# Altium footprint library basic_pcb.PcbLib: 133 footprints (part 3 of 9)
Each footprint in its own frame and in the unit in brackets; x right, y up, seen from the top. Pads: shape width x height; smd on the part's side, far side on the other; paste and mask are expansions set on the pad; w line width, h text height; cw(c..) or ccw(c..) is an arc to the next point about the centre after c.
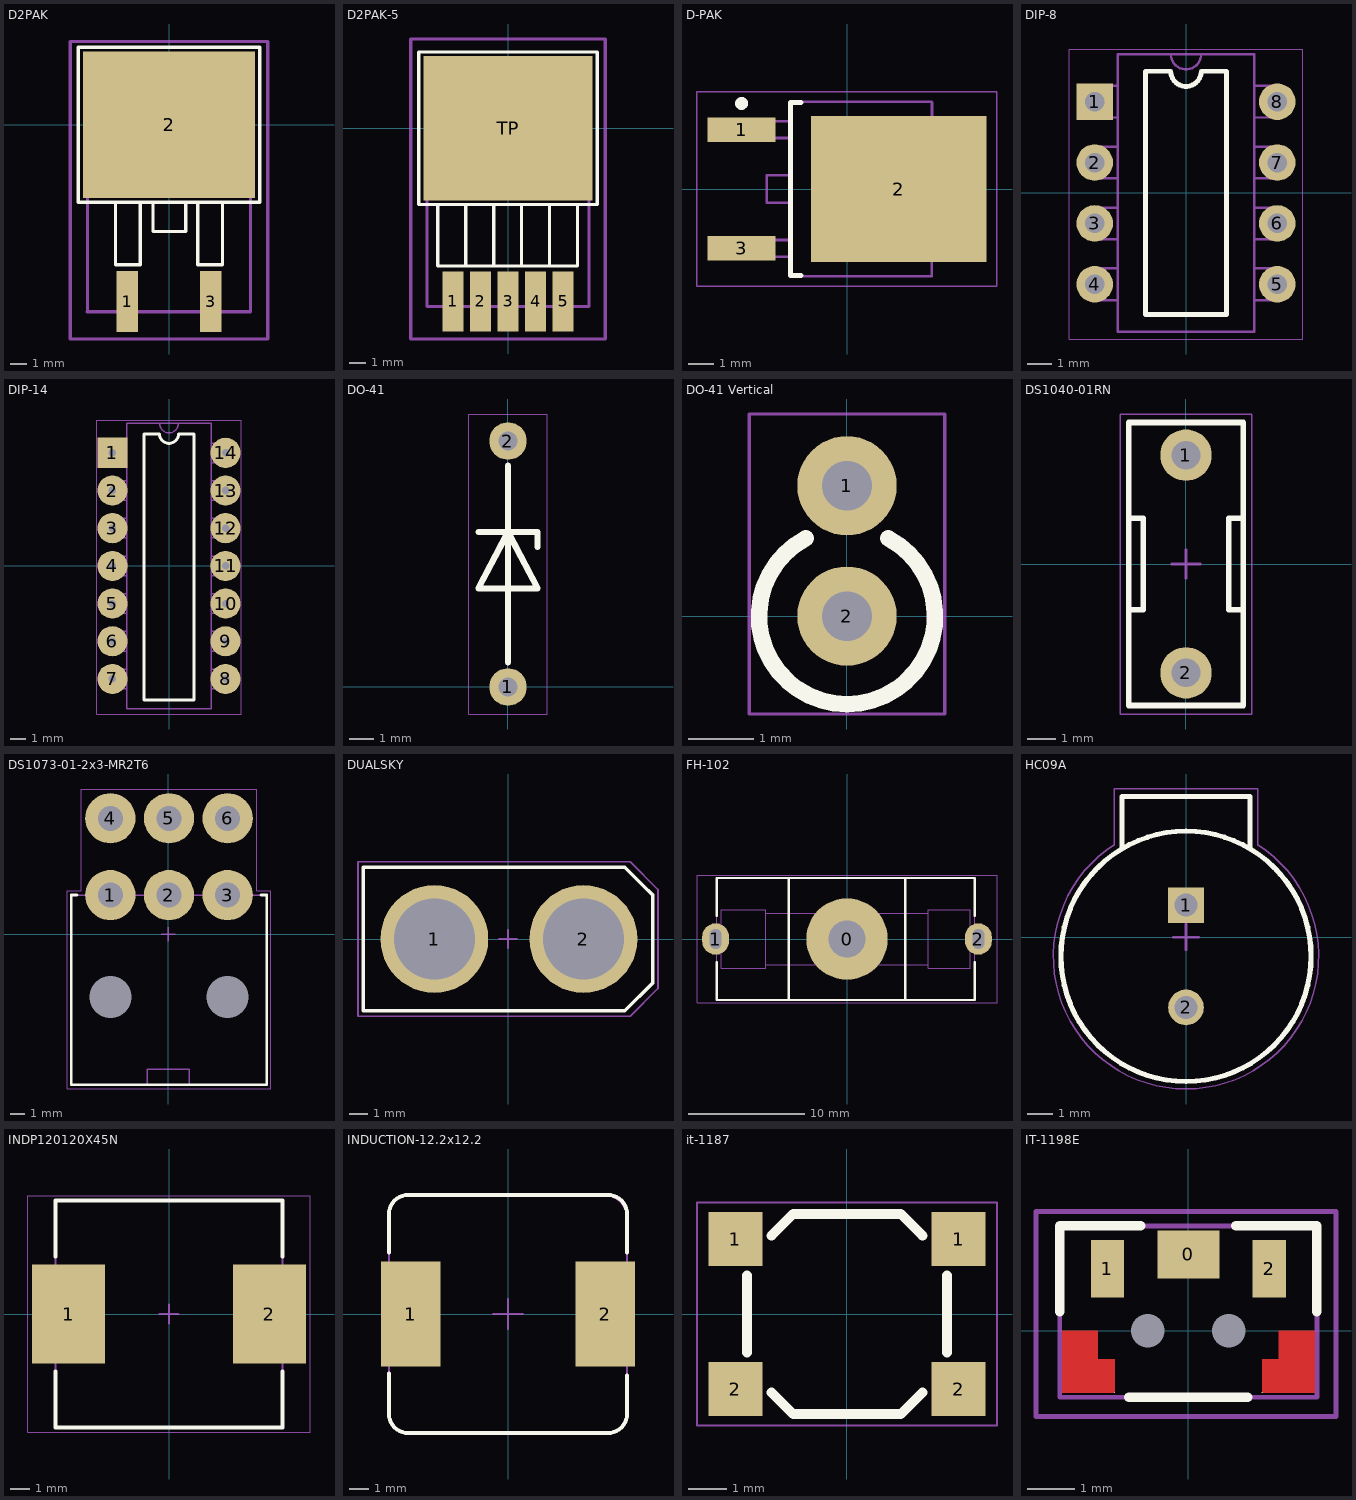
[diagram p2: the footprints below, top view; thin cyan lines are the x and y axes]

## D2PAK [mm]
pads (3):
  rect 1.3x3.7 smd: 1(-2.54,-10.735) 3(2.54,-10.735)
  rect 10.41x8.9 smd: 2(0,0)
Top Overlay:
  lines w0.2: -3.25,-4.75 -3.25,-8.25 -3.25,-8.5 -1.75,-8.5 -1.75,-8.25 -1.75,-4.75 ; -0.975,-4.725 -0.975,-6.475 1.025,-6.475 1.025,-4.725 ; 1.75,-4.75 1.75,-8.25 1.75,-8.5 3.25,-8.5 3.25,-8.25 3.25,-4.75 ; -5.5,-4.7 5.5,-4.7 5.5,4.7 -5.5,4.7 -5.5,-4.7
Top Value:
  text ".Comment" at 7,-0.484 h1.52
Top Designator:
  text ".Designator" at 6.85,1.105 h1.52
Top Component Outline:
  lines w0.2: -4.975,-11.35 -4.95,-11.35 -4.95,4.275 4.95,4.275 4.95,-11.35 -4.975,-11.35
Top Courtyard:
  lines w0.2: -0.5,0 0.5,0 ; 0,-0.5 0,0.5 0,0 ; -6,-13 -6,5.05 6,5.05 6,-13 -6,-13
3D body "User Library-TO263-3S.STEP": height 4.76, standoff -0.04, extent -5,-11.335 5,4.335

## D2PAK-5 [mm] "KTT0005B"
pads (6):
  rect 1.3x3.7 smd: 1(-3.4,-10.675) 2(-1.7,-10.675) 3(0,-10.675) 4(1.7,-10.675) 5(3.4,-10.675)
  rect 10.41x8.9 smd: TP(0,0)
Top Overlay:
  lines w0.2: -4.336,-4.725 -4.336,-8.5 -2.611,-8.5 ; 4.289,-4.725 4.289,-8.5 2.564,-8.5 ; -2.611,-8.5 -2.611,-4.725 -2.611,-8.5 ; -2.611,-8.5 -0.886,-8.5 ; -0.886,-8.5 -0.886,-4.725 -0.886,-8.5 ; -0.886,-8.5 0.839,-8.5 ; 0.839,-8.5 0.839,-4.725 0.839,-8.5 ; 0.839,-8.5 2.564,-8.5 ; 2.564,-8.5 2.564,-4.725 2.564,-8.5 ; -5.5,-4.7 -5.5,4.7 5.5,4.7 5.5,-4.7 -5.5,-4.7
Top Value:
  text ".Comment" at 7,-0.484 h1.52
Top Designator:
  text ".Designator" at 6.85,1.105 h1.52
Top Component Outline:
  lines w0.2: -5,-11 5,-11 5,3.5 -5,3.5 -5,-11
Top Courtyard:
  lines w0.2: -6,-13 -6,5 -6,5.5 6,5.5 6,-13 -6,-13
3D body "User Library-DІPAK TO-263-5.step": height 4.87, standoff 0, extent -5.005,-10.915 5.155,3.315

## D-PAK [mm] "D-PAK, 3-Pads, Body 6,21x6,73mm (max), IPC High Density"
height 2.41
pads (3):
  rect 2.65x0.95 smd: 1(-4.1,2.29) 3(-4.1,-2.29)
  rect 6.8x5.65 smd: 2(2,0)
Top Overlay:
  circle w0.25: c-4.1,3.315 r0.125
  lines w0.2: -1.8,-3.35 -2.2,-3.35 -2.2,3.35 -1.8,3.35
Top Value:
  text ".Comment" at -5.807,-5.874 h1.2
Top Designator:
  text ".Designator" at -5.808,-4.835 h1.5
Top Component Outline:
  lines w0.1: -4.025,-2.625 -4.025,-1.975 ; -4.025,1.975 -4.025,2.625 ; -2.2,-2.625 -4.725,-2.625 -4.725,-1.975 -2.2,-1.975 ; -2.2,-0.525 -3.125,-0.525 -3.125,0.525 -2.2,0.525 ; -2.2,1.975 -4.725,1.975 -4.725,2.625 -2.2,2.625 ; 3.276,-2.55 4.325,-2.55 4.8,-2.075 4.8,2.075 4.325,2.55 3.279,2.55 ; 3.275,3.375 -2.2,3.375 -2.2,-3.375 3.275,-3.375 3.28,3.35
Top Courtyard:
  lines w0.05: -5.825,-3.775 -5.825,3.775 5.8,3.775 5.8,-3.775 -5.825,-3.775
  lines w0.1: -0.5,0 0.5,0 ; 0,-0.5 0,0.5
3D body "D-PAK.STEP": height 2.3, standoff 0, extent -4.7,-3.247 4.8,3.247

## DIP-8 [mm]
height 3.1
pads (8):
  rect 1.5x1.5 hole 0.8: 1(-3.75,3.75)
  round 1.5 hole 0.8: 2(-3.75,1.25) 3(-3.75,-1.25) 4(-3.75,-3.75) 5(3.75,-3.75) 6(3.75,-1.25) 7(3.75,1.25) 8(3.75,3.75)
Top Overlay:
  lines w0.2: -1.665,-5 1.665,-5 1.665,5 0.625,5 cw(c0,5) -0.625,5 -1.665,5 -1.665,-5
Top Value:
  text ".Comment" at -1.722,-1.474 h1.2
Top Designator:
  text ".Designator" at -2.578,0.865 h1.5
Top Component Outline:
  lines w0.1: -2.8,-4.4 -3.9,-4.4 -3.9,-3.1 -2.8,-3.1 ; -2.8,-1.9 -3.9,-1.9 -3.9,-0.6 -2.8,-0.6 ; -2.8,0.6 -3.9,0.6 -3.9,1.9 -2.8,1.9 ; -2.8,3.1 -3.9,3.1 -3.9,4.4 -2.8,4.4 ; -0.625,5.7 ccw(c0,5.7) 0.625,5.7 ; 2.8,-4.4 3.9,-4.4 3.9,-3.1 2.8,-3.1 ; 2.8,-1.9 3.9,-1.9 3.9,-0.6 2.8,-0.6 ; 2.8,0.6 3.9,0.6 3.9,1.9 2.8,1.9 ; 2.8,3.1 3.9,3.1 3.9,4.4 2.8,4.4 ; -2.8,-5.7 -2.8,5.7 2.8,5.7 2.8,-5.7 -2.8,-5.7
Top Courtyard:
  lines w0.05: -4.8,-6 -4.8,5.9 4.8,5.9 4.8,-6 -4.8,-6
3D body "CircuitWorks-DIP8.step": height 4.19, standoff -2.67, extent -3.937,-5.73 3.937,5.7

## DIP-14 [mm]
height 3.1
pads (14):
  rect 2x2 hole 0.5: 1(-3.75,7.5)
  round 2 hole 0.5: 2(-3.75,5) 3(-3.75,2.5) 4(-3.75,0) 5(-3.75,-2.5) 6(-3.75,-5) 7(-3.75,-7.5) 8(3.75,-7.5) 9(3.75,-5) 10(3.75,-2.5) 11(3.75,0) 12(3.75,2.5) 13(3.75,5) 14(3.75,7.5)
Top Overlay:
  lines w0.2: -1.665,-8.9 1.665,-8.9 1.665,8.75 0.625,8.75 cw(c0,8.75) -0.625,8.75 -1.665,8.75 -1.665,-8.9
Top Value:
  text ".Comment" at -1.722,2.276 h1.2
Top Designator:
  text ".Designator" at -2.578,4.615 h1.5
Top Component Outline:
  lines w0.1: -3.9,-8.15 -2.8,-8.15 ; -3.9,-6.85 -2.8,-6.85 ; -3.9,-5.65 -2.8,-5.65 ; -3.9,-4.35 -2.8,-4.35 ; -3.9,-3.15 -2.8,-3.15 ; -3.9,-1.85 -2.8,-1.85 ; -2.8,-0.65 -3.9,-0.65 -3.9,0.65 -2.8,0.65 ; -2.8,1.85 -3.9,1.85 -3.9,3.15 -2.8,3.15 ; -2.8,4.35 -3.9,4.35 -3.9,5.65 -2.8,5.65 ; -2.8,6.85 -3.9,6.85 -3.9,8.15 -2.8,8.15 ; -0.625,9.45 ccw(c0,9.45) 0.625,9.45 ; 2.8,-8.15 3.9,-8.15 ; 2.8,-6.85 3.9,-6.85 ; 2.8,-5.65 3.9,-5.65 ; 2.8,-4.35 3.9,-4.35 ; 2.8,-3.15 3.9,-3.15 ; 2.8,-1.85 3.9,-1.85 ; 2.8,-0.65 3.9,-0.65 3.9,0.65 2.8,0.65 ; 2.8,1.85 3.9,1.85 3.9,3.15 2.8,3.15 ; 2.8,4.35 3.9,4.35 3.9,5.65 2.8,5.65 ; 2.8,6.85 3.9,6.85 3.9,8.15 2.8,8.15 ; -2.8,-9.475 -2.8,9.45 2.8,9.45 2.8,-9.475 -2.8,-9.475
Top Courtyard:
  lines w0.05: -4.8,-9.825 -4.8,9.65 4.8,9.65 4.8,-9.825 -4.8,-9.825
3D body "CircuitWorks-DIP8.step": height 4.19, standoff -2.67, extent -3.937,-9.48 3.937,1.95
3D body "CircuitWorks-DIP8.step": height 4.19, standoff -2.67, extent -3.937,-1.98 3.937,9.45

## DO-41 [mil] "zener diode"
pads (2):
  round 60 hole 30: 1(0,0) 2(0,393.7)
Top Overlay:
  lines w10: -47.24,248.02 0,248.01 -47.43,157.48 47.43,157.48 0,248.03 47.24,248.03 47.24,224.41 ; 0,39.37 0,354.33
Top Value:
  text ".Comment" at -33.9,170.3 h23.62
Top Designator:
  text ".Designator" at -54.15,190.66 h31.5
Top Courtyard:
  lines w1.97: -62.99,-43.31 62.99,-43.31 62.99,437.01 -62.99,437.01 -62.99,-43.31

## DO-41 Vertical [mil]
pads (2):
  round 60 hole 30: 1(0,78.74) 2(0,0)
Top Overlay:
  lines w10: -24.95,46.93 ccw(c0,0) 24.95,46.93
Top Value:
  text ".Comment" at -33.9,16.76 h23.62
Top Designator:
  text ".Designator" at -54.15,37.11 h31.5
Top Courtyard:
  lines w1.97: -59.06,-59.06 -59.06,122.05 59.06,122.05 59.06,-59.06 -59.06,-59.06
3D body "User Library-DO_41_Vertical_H6P7.STEP": height 280.71, standoff -59.06, extent -53.15,-53.15 53.15,95.67

## DS1040-01RN [mm] "Ïåðåêëþ÷àòåëü íàïëàòíûé"
height 8
pads (2):
  round 1.8 hole 1: 1(0,3.81) 2(0,-3.81)
Top Overlay:
  lines w0.2: -2,-1.6 -1.5,-1.6 -1.5,0 -1.5,1.6 -2,1.6 ; -0.5,4 0.5,4 ; 2,-1.6 1.5,-1.6 1.5,0 1.5,1.6 2,1.6 ; -2,-4.95 -2,4.95 0.6,4.95 2,4.95 2,-4.95 -2,-4.95
Top Value:
  text ".Comment" at 1.274,-1.722 h1.2
Top Designator:
  text ".Designator" at -0.465,-2.578 h1.5
Top Component Outline:
  lines w0.1: -2,-4.95 2,-4.95 2,4.95 -2,4.95 -2,-4.95
Top Courtyard:
  lines w0.05: -2.3,-5.25 2.3,-5.25 2.3,5.25 -2.3,5.25 -2.3,-5.05 -2.3,-5.25
  lines w0.1: -0.5,0 0.5,0 ; 0,-0.5 0,0.5
3D body: height 8.25, standoff 0.05, extent -2,-4.95 2,4.95
3D body: height 8.1, standoff 6.9, extent -0.65,2 0.65,6.7
3D body: height 1.35, standoff -1.35, extent -0.3,3.71 0.3,3.91
3D body: height 1.35, standoff -1.35, extent -0.3,-3.91 0.3,-3.71

## DS1073-01-2x3-MR2T6 [mm]
height 12
pads (8):
  round 0 hole 3: 0(-4.15,-4.5) 0(4.25,-4.5)
  round 3.6 hole 1.8: 1(-4.15,2.8) 2(0.05,2.8) 3(4.25,2.8) 4(-4.15,8.3) 5(0.05,8.3) 6(4.25,8.3)
Top Overlay:
  lines w0.2: -6.55,2.8 -6.95,2.8 -6.95,-10.792 7.05,-10.792 7.05,2.8 6.65,2.8
Top Value:
  text ".Comment" at -1.722,-5.974 h1.2
Top Designator:
  text ".Designator" at -2.578,-3.635 h1.5
Top Component Outline:
  lines w0.1: -6.95,-10.792 6.95,-10.792 ; -6.95,-10.1 -6.95,2.8 6.95,2.8 ; -1.5,-10.792 -1.5,-9.692 1.5,-9.692 1.5,-10.792 ; 7.05,-10.1 7.05,2.8
Top Courtyard:
  lines w0.05: -7.25,-11.092 7.35,-11.092 7.35,3.1 6.35,3.1 6.35,10.4 -6.25,10.4 -6.25,3.1 -7.25,3.1 -7.25,-11.092
  lines w0.1: -0.5,0 0.5,0 ; 0,-0.5 0,0.5
3D body "Molex - Mini-Fit - 6c - PCB.stp": height 11.4, standoff -3.6, extent -6.85,-11.092 7.35,8.842

## DUALSKY [mm]
pads (2):
  round 6 hole 4.5: 1(-4.1,0) 2(4.2,0)
Top Overlay:
  lines w0.2: 7.5,3 6.5,4 -8.05,4 -8.05,-4 6.5,-4 8.05,-2.45 8.05,2.45 7.5,3 ; 7.5,3 7.5,3
Top Value:
  text ".Comment" at -8.307,-6.374 h1.2
Top Designator:
  text ".Designator" at -8.308,-5.335 h1.5
Top Component Outline:
  lines w0.1: -8.05,-4 6.5,-4 8.05,-2.45 8.05,2.45 6.5,4 -8.039,4 -8.05,-4
Top Courtyard:
  lines w0.1: -0.5,0 0.5,0 ; 0,-0.5 0,0.5 ; -8.35,-4.3 6.8,-4.3 8.35,-2.75 8.35,2.75 6.8,4.3 -8.35,4.3 -8.35,-4.3
3D body "DUALSKY DC3.STEP": height 15.4, standoff -5.1, extent -8.039,-4 8.05,4

## FH-102 [mm] "Äåðæàòåëü äëÿ ïðåäîõðàíèòåëÿ 520"
pads (3):
  round 7 hole 3.2: 0(0,0)
  oval 2.3x2.7 hole 1 slot 1.7 at 90 deg: 1(-11.3,0) 2(11.3,0)
Top Overlay:
  lines w0.2: -11.2,-2 -11.2,-5.25 11,-5.25 11,-2 ; -11.2,2 -11.2,5.25 11,5.25 11,2 ; -5,-5.25 -5,5.25 ; 5,-5.25 5,5.25
Top Value:
  text ".Comment" at -13.007,-7.574 h1.2
Top Designator:
  text ".Comment" at -1.755,-0.605 h1
  text ".Designator" at -1.825,0.125 h1
  text ".Designator" at -13.008,-6.535 h1.5
Top Component Outline:
  lines w0.1: -7,-2.2 0,-2.2 7,-2.2 ; -7,2.2 0,2.2 7,2.2 ; -11.2,-5.25 -11.2,5.25 11,5.25 11,-5.25 -11.2,-5.25 ; -10.8,-2.5 -10.8,0.8 -10.8,2.5 -7,2.5 -7,-2.5 -10.8,-2.5 ; 7,-2.5 10.6,-2.5 10.6,0.6 10.6,2.5 7,2.5 7,-2.5
Top Courtyard:
  lines w0.05: -12.9,-5.5 12.9,-5.5 12.9,-0.3 12.9,5.5 -12.9,5.5 -12.9,0.5 -12.9,-5.5
  lines w0.1: -0.5,0 0.5,0 ; 0,-0.5 0,0.5
3D body "User Library-Fuse_Holder.STEP": height 13.24, standoff -5.6, extent -11.58,-4.5 11.58,4.5
3D body: height 1.35, standoff -1.35, extent 11,-0.3 11.2,0.3
3D body: height 1.35, standoff -1.35, extent -11.4,-0.3 -11.2,0.3

## HC09A [mm]
pads (2):
  rect 1.4x1.4 hole 0.9: 1(0,1.25)
  round 1.4 hole 0.9: 2(0,-2.75)
Top Overlay:
  circle w0.2: c0,-0.75 r4.9
  lines w0.2: -2.5,3.475 -2.5,5.5 2.5,5.5 2.5,3.45
Top Value:
  text ".Comment" at -1.722,-1.774 h1.2
Top Designator:
  text ".Designator" at -2.611,-0.735 h1.5
Top Courtyard:
  lines w0.05: -2.8,3.625 ccw(c0,-0.75) 2.8,3.625 2.8,5.8 -2.8,5.8 -2.8,3.625
  lines w0.1: -0.5,0 0.5,0 ; 0,-0.5 0,0.5
3D body "User Library-hc09xxa.step": height 5.01, standoff -3, extent -4.75,-5.5 4.75,5.5

## INDP120120X45N [mm] "Precision Wire Wound Inductor, 2-Leads, Body 12,00x12,00mm, IPC Medium Density"
height 4.5
pads (2):
  rect 3.75x5.1 smd: 1(-5.175,0) 2(5.175,0)
Top Overlay:
  lines w0.2: -5.85,-2.95 -5.85,-5.85 5.85,-5.85 5.85,-2.95 ; -5.85,2.95 -5.85,5.85 5.85,5.85 5.85,2.95
Top Assembly:
  lines w0.1: -5.85,-5.85 -5.85,5.85 5.85,5.85 5.85,-5.85 -5.85,-5.85
Top Value:
  text ".Comment" at -2.189,-0.952 h1.52
Top Designator:
  text ".Designator" at -2.617,0.272 h1.52
Top Courtyard:
  lines w0.05: -7.275,-6.1 -7.275,6.1 7.275,6.1 7.275,-6.1 -7.275,-6.1
  lines w0.1: -0.5,0 0.5,0 ; 0,-0.5 0,0.5
3D body: height 4.5, standoff 0, extent -5.85,-5.85 5.85,5.85

## INDUCTION-12.2x12.2 [mm]
pads (2):
  rect 3x5.3 smd: 1(-4.9,0) 2(4.9,0)
Top Overlay:
  lines w0.2: -6,-3 -6,-5 ccw(c-5,-5) -5,-6 5,-6 ccw(c5,-5) 6,-5 6,-3.1 ; -6,3.1 -6,5 cw(c-5,5) -5,6 5,6 cw(c5,5) 6,5 6,3.1
Top Value:
  text ".Comment" at -1.722,-1.474 h1.2
Top Designator:
  text ".Designator" at -2.578,0.865 h1.5
Top Component Outline:
  lines w0.1: -6,-5 ccw(c-5,-5) -5,-6 5,-6 ccw(c5,-5) 6,-5 6,-3.1 6,3.1 6,4.81 ccw(c4.81,4.81) 4.81,6 -5,6 ccw(c-5,5) -6,5 -6,3.1 -6,-3 -6,-5
Top Courtyard:
  lines w0.05: -6,-5 ccw(c-5,-5) -5,-6 5,-6 ccw(c5,-5) 6,-5 6,-3.1 6,3.1 6,4.81 ccw(c4.81,4.81) 4.81,6 -5,6 ccw(c-5,5) -6,5 -6,3.1 -6,-3 -6,-5
  lines w0.1: -0.75,0 0.75,0 ; 0,-0.75 0,0.75
3D body: height 6.3, standoff 0.25, extent -6.169,-6.048 6.131,6.252

## it-1187 [mm]
pads (4):
  rect 1.4x1.4 smd: 1(-2.9,1.95) 1(2.9,1.95) 2(-2.9,-1.95) 2(2.9,-1.95)
Top Overlay:
  lines w0.254: -2.6,-1 -2.6,1 ; -1.963,-2.037 -1.4,-2.6 1.4,-2.6 1.963,-2.037 ; -1.963,2.037 -1.4,2.6 1.4,2.6 1.963,2.037 ; 2.6,-1 2.6,1
Top Value:
  text ".Comment" at -2.189,-0.952 h1.52
Top Designator:
  text ".Designator" at -2.617,0.272 h1.52
Top Courtyard:
  lines w0.05: -3.9,-2.9 -3.9,2.9 3.9,2.9 3.9,-2.9 -3.9,-2.9
3D body "User Library-IT-1187.step": height 1.5, standoff 0, extent -3.2,-2.625 3.2,2.575

## IT-1198E [mm]
pads (7):
  round 0.025 smd: 0(-1.55,-1.3) 0(1.55,-1.3)
  rect 1.3x1 smd: 0(0,1.6)
  rect 0.7x1.2 smd: 1(-1.7,1.3) 2(1.7,1.3)
  round 0 hole 0.7 unplated: ""(-0.85,0) ""(0.85,0)
Top Layer:
  region: -2.65,-1.3 -2.65,0 -1.9,0 -1.9,-0.6 -1.55,-0.6 -1.55,-1.3
  region: 2.65,-1.3 2.65,0 1.9,0 1.9,-0.6 1.55,-0.6 1.55,-1.3
Top Overlay:
  lines w0.2: -2.7,0.4 -2.7,2.2 -1,2.2 ; -1.25,-1.4 1.25,-1.4 ; 1,2.2 2.7,2.2 2.7,0.4
Top Value:
  text ".Comment" at -3.122,-3.849 h1.2
Top Designator:
  text ".Designator" at -3.178,-2.833 h1.5
Top Component Outline:
  lines w0.1: -2.7,-1.4 2.7,-1.4 2.7,2.2 -2.7,2.2 -2.7,-1.4
Top Courtyard:
  lines w0.1: -3.2,-1.8 3.1,-1.8 3.1,2.5 -3.2,2.5 -3.2,-1.8
3D body "it-1198e — копия.stp": height 1.7, standoff -0.4, extent -2.25,-2.1 2.25,1.85